# Altium schematic symbol library Texas Instruments_By_element14_Batch_1.SCHLIB: 1 symbol
Pins are listed as number, name and electrical type; pins without a type are passive.

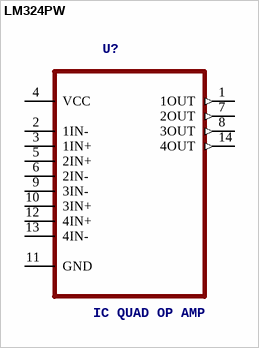
[diagram p0: symbol LM324PW]

## LM324PW
designator U?, comment IC QUAD OP AMP
MPN: LM324PW; OC_FARNELL: 8389241; OC_NEWARK: 38K3709; PACKAGE: 14-TSSOP; SUPPLIER: Texas Instruments
footprint SOP65P640X120-14N
pins: 1 1OUT (out), 2 1IN-, 3 1IN+, 4 VCC (power), 5 2IN+, 6 2IN-, 7 2OUT (out), 8 3OUT (out), 9 3IN-, 10 3IN+, 11 GND, 12 4IN+, 13 4IN-, 14 4OUT (out)